# Altium schematic symbol library MB0048A.01.A.2.SchLib: 1 symbol
Pins are listed as number, name and electrical type; pins without a type are passive.

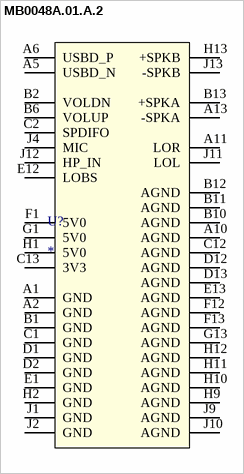
[diagram p0: symbol MB0048A.01.A.2]

## MB0048A.01.A.2
designator U?
pins: A1 GND, A2 GND, A5 USBD_N, A6 USBD_P, A10 AGND, A11 LOR, A13 -SPKA, B1 GND, B2 VOLDN, B6 VOLUP, B10 AGND, B11 AGND, B12 AGND, B13 +SPKA, C1 GND, C2 SPDIFO, C12 AGND, C13 3V3, D1 GND, D2 GND, D12 AGND, D13 AGND, E1 GND, E12 LOBS, E13 AGND, F1 5V0, F12 AGND, F13 AGND, G1 5V0, G13 AGND, H1 5V0, H2 GND, H9 AGND, H10 AGND, H11 AGND, H12 AGND, H13 +SPKB, J1 GND, J2 GND, J4 MIC, J9 AGND, J10 AGND, J11 LOL, J12 HP_IN, J13 -SPKB